# Altium footprint library Mylibr1.PcbLib: 92 footprints (part 2 of 6)
Each footprint in its own frame and in the unit in brackets; x right, y up, seen from the top. Pads: shape width x height; smd on the part's side, far side on the other; paste and mask are expansions set on the pad; w line width, h text height; cw(c..) or ccw(c..) is an arc to the next point about the centre after c.
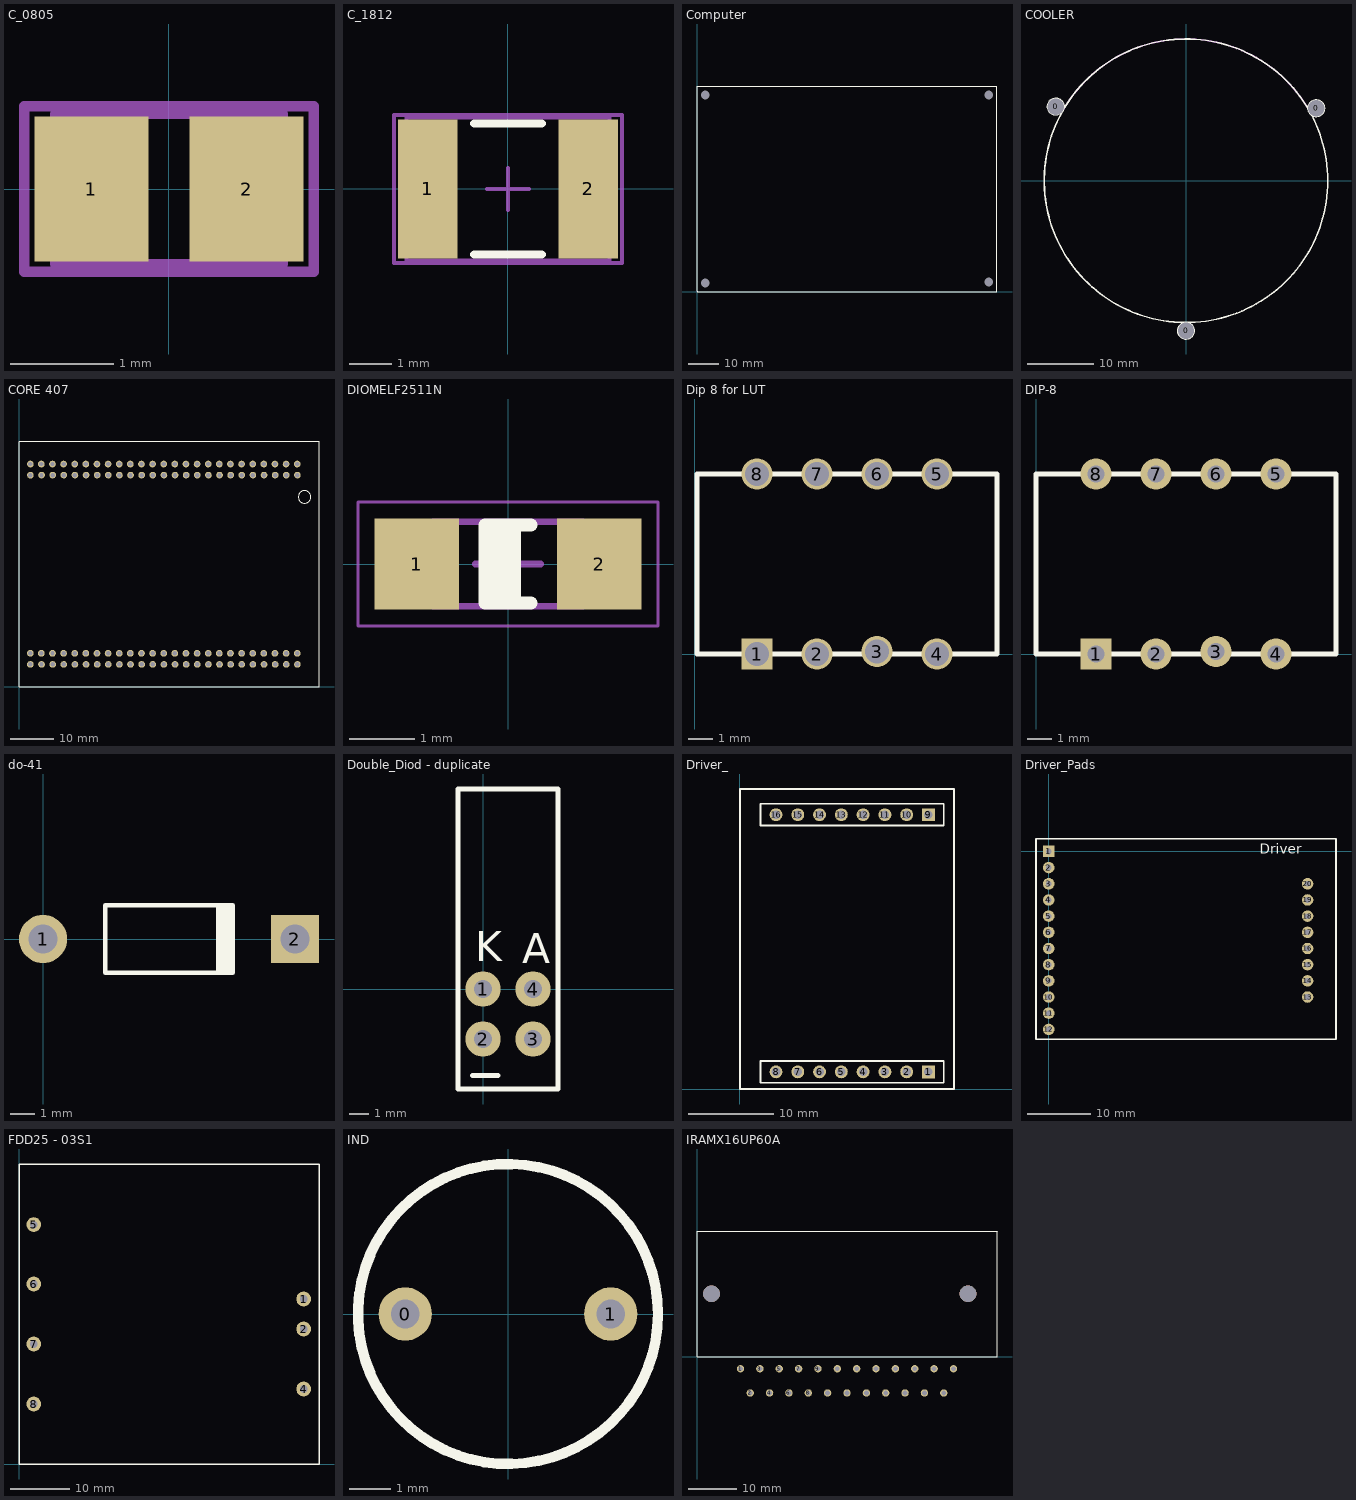
[diagram p1: the footprints below, top view; thin cyan lines are the x and y axes]

## C_0805 [mm] "Chip Capacitor, Body 2.0x1.3mm, IPC High Density"
height 1.4
pads (2):
  rect 1.1x1.4 smd: 1(-0.75,0) 2(0.75,0)
Mechanical 13:
  lines w0.1: -1.1,-0.725 -1.1,0.725 1.1,0.725 1.1,-0.725 -1.1,-0.725
Mechanical 15:
  lines w0.1: -1.4,-0.8 -1.4,0.8 1.4,0.8 1.4,-0.8 -1.4,-0.8
3D body: height 1.4, standoff 0, extent -1.1,-0.725 1.1,0.725

## C_1812 [mm] "Chip Capacitor, Body 4.5x3.2mm, IPC High Density"
height 1.4
pads (2):
  rect 1.4x3.3 smd: 1(-1.9,0) 2(1.9,0)
Top Overlay:
  lines w0.2: -0.8,-1.55 0.8,-1.55 ; -0.8,1.55 0.8,1.55
Mechanical 13:
  lines w0.1: -2.4,-1.7 2.4,-1.7 2.4,1.7 -2.4,1.7 -2.4,-1.7
Mechanical 15:
  lines w0.1: -0.5,0 0.5,0 ; 0,-0.5 0,0.5 ; -2.7,-1.75 2.7,-1.75 2.7,1.75 -2.7,1.75 -2.7,-1.75
3D body: height 1.4, standoff 0, extent -2.4,-1.7 2.4,1.7

## Computer [mm]
pads (4):
  round 1.524 hole 3: 0(2.75,3) 0(2.75,65.5) 0(97.25,3.25) 0(97.25,65.5)
Top Overlay:
  lines w0.254: 0,0 100,0 100,68.5 0.25,68.5 0,68.5 0,0.25 0.25,0

## COOLER [mm]
pads (3):
  round 1.524 hole 2.5: 0(-19.75,11.25) 0(0,-22.75) 0(19.75,11)
Top Overlay:
  circle w0.254: c-19.75,11.25 r1.25
  circle w0.254: c19.75,11 r1.25
  circle w0.254: c0,-22.75 r1.25
  circle w0.254: c0,0 r21.5
Mechanical 1:
  lines w0.254: -18.62,10.75 cw(c0,0) 18.62,10.75

## CORE 407 [mm]
pads (100):
  round 1.524 hole 1: 1(63.52,50.82) 2(63.57,48.3) 3(60.98,50.82) 4(61.03,48.3) 5(58.44,50.82) 6(58.49,48.3) 7(55.9,50.82) 8(55.95,48.3) 9(53.36,50.82) 10(53.41,48.3) 11(50.82,50.82) 12(50.87,48.3) 13(48.28,50.82) 14(48.33,48.3) 15(45.74,50.82) 16(45.79,48.3) 17(43.2,50.82) 18(43.25,48.3) 19(40.66,50.82) 20(40.71,48.3) 21(38.12,50.82) 22(38.17,48.3) 23(35.58,50.82) 24(35.63,48.3) 25(33.04,50.82) 26(33.09,48.3) 27(30.5,50.82) 28(30.55,48.3) 29(27.96,50.82) 30(28.01,48.3) 31(25.42,50.82) 32(25.47,48.3) 33(22.88,50.82) 34(22.93,48.3) 35(20.34,50.82) 36(20.39,48.3) 37(17.8,50.82) 38(17.85,48.3) 39(15.26,50.82) 40(15.31,48.3) 41(12.72,50.82) 42(12.77,48.3) 43(10.18,50.82) 44(10.23,48.3) 45(7.64,50.82) 46(7.69,48.3) 47(5.1,50.82) 48(5.15,48.3) 49(2.6,50.82) 50(2.6,48.28) 51(2.59,5.08) 52(2.59,7.62) 53(5.15,5.08) 54(5.1,7.6) 55(7.69,5.08) 56(7.64,7.6) 57(10.23,5.08) 58(10.18,7.6) 59(12.77,5.08) 60(12.72,7.6) 61(15.31,5.08) 62(15.26,7.6) 63(17.85,5.08) 64(17.8,7.6) 65(20.39,5.08) 66(20.34,7.6) 67(22.93,5.08) 68(22.88,7.6) 69(25.47,5.08) 70(25.42,7.6) 71(28.01,5.08) 72(27.96,7.6) 73(30.55,5.08) 74(30.5,7.6) 75(33.09,5.08) 76(33.04,7.6) 77(35.63,5.08) 78(35.58,7.6) 79(38.17,5.08) 80(38.12,7.6) 81(40.71,5.08) 82(40.66,7.6) 83(43.25,5.08) 84(43.2,7.6) 85(45.79,5.08) 86(45.74,7.6) 87(48.33,5.08) 88(48.28,7.6) 89(50.87,5.08) 90(50.82,7.6) 91(53.41,5.08) 92(53.36,7.6) 93(55.95,5.08) 94(55.9,7.6) 95(58.49,5.08) 96(58.44,7.6) 97(61.03,5.08) 98(60.98,7.6) 99(63.57,5.08) 100(63.52,7.6)
Top Overlay:
  circle w0.254: c65.2,43.3 r1.428
  lines w0.25: 0,0 0,55.88 ; 0,56 68.5,56 68.5,0.1
  lines w0.254: 0,0 68.5,0

## DIOMELF2511N [mm] "MELF Diode, 2-Leads, Body 2,55x1,10mm, IPC Medium Density"
height 1.3
pads (2):
  rect 1.3x1.4 smd: 1(-1.4,0) 2(1.4,0)
Top Overlay:
  rectangle: -0.35,-0.6 0.2,0.6
  lines w0.2: 0.35,-0.6 -0.35,-0.6 -0.35,0.6 0.35,0.6
Mechanical 13:
  lines w0.1: -1.15,-0.65 -1.15,0.65 1.15,0.65 1.15,-0.65 -1.15,-0.65
Mechanical 15:
  lines w0.05: -2.3,-0.95 -2.3,0.95 2.3,0.95 2.3,-0.95 -2.3,-0.95
  lines w0.1: -0.5,0 0.5,0 ; 0,-0.5 0,0.5
3D body: height 1.29, standoff 0, extent -1.15,-0.65 -0.6,0.647
3D body: height 1.28, standoff 0.04, extent 0,-0.621 0.6,0.619
3D body: height 1.28, standoff 0.05, extent -0.6,-0.62 0.6,0.618
3D body: height 1.29, standoff 0, extent 0.6,-0.65 1.15,0.647

## Dip 8 for LUT [mm]
pads (8):
  rect 1.3x1.3 hole 1 unplated: 1(2.6,0)
  round 1.3 hole 1 unplated: 2(5.1,0) 3(7.6,0.1) 4(10.1,0) 5(10.1,7.5) 6(7.6,7.5) 7(5.1,7.5) 8(2.6,7.5)
Top Overlay:
  lines w0.2: 0.1,0 0.1,7.5 12.6,7.5 12.6,0 0.1,0

## DIP-8 [mm]
pads (8):
  rect 1.3x1.3 hole 0.7 unplated: 1(2.5,0)
  round 1.3 hole 0.7 unplated: 2(5,0) 3(7.5,0.1) 4(10,0) 5(10,7.5) 6(7.5,7.5) 7(5,7.5) 8(2.5,7.5)
Top Overlay:
  lines w0.2: 0,0 12.5,0 12.5,7.5 0,7.5 0,0

## do-41 [mm]
pads (2):
  round 2 hole 1.2: 1(0,0)
  rect 2x2 hole 1.2: 2(10.46,0)
Top Overlay:
  rectangle: 7.18,-1.4 7.98,1.4
  lines w0.2: 7.88,-1.4 2.58,-1.4 2.58,1.4 7.88,1.4

## Double_Diod - duplicate [mm]
pads (4):
  round 1.8 hole 0.9: 1(0,0) 2(0,-2.54) 3(2.54,-2.54) 4(2.54,0)
Top Overlay:
  lines w0.254: -0.54,-4.4 0.76,-4.4 ; -1.27,-5.08 -1.27,10.16 0,10.16 3.81,10.16 3.81,-5.08 -1.27,-5.08
  text "K" at -0.4,1.4 h1.52
  text "A" at 2,1.3 h1.52

## Driver_ [mm]
pads (16):
  rect 1.5x1.5 hole 1: 1(22,2) 9(22,32)
  round 1.5 hole 1: 2(19.46,2) 3(16.92,2) 4(14.38,2) 5(11.84,2) 6(9.3,2) 7(6.76,2) 8(4.22,2) 10(19.46,32) 11(16.92,32) 12(14.38,32) 13(11.84,32) 14(9.3,32) 15(6.76,32) 16(4.22,32)
Top Overlay:
  lines w0.2: 23.778,0.73 23.778,3.27 ; 23.778,30.73 23.778,33.27 ; 23.78,0.73 2.4,0.73 2.4,3.27 23.78,3.27 ; 23.78,30.73 2.4,30.73 2.4,33.27 23.78,33.27
  lines w0.254: 0,0 0,35 25,35 25,0 0,0

## Driver_Pads [mm]
pads (20):
  rect 1.8x1.8 hole 0.9: 1(0,0)
  round 1.8 hole 0.9: 2(0,-2.54) 3(0,-5.08) 4(0,-7.62) 5(0,-10.16) 6(0,-12.7) 7(0,-15.24) 8(0,-17.78) 9(0,-20.32) 10(0,-22.86) 11(0,-25.4) 12(0,-27.94) 13(40.64,-22.86) 14(40.64,-20.32) 15(40.64,-17.78) 16(40.64,-15.24) 17(40.64,-12.7) 18(40.64,-10.16) 19(40.64,-7.62) 20(40.64,-5.08)
Top Overlay:
  lines w0.254: 45,2 0,2 -2,2 -2,-29.5 45.1,-29.5 45.1,2
  text "Driver" at 33.1,-0.4 h1.52

## FDD25 - 03S1 [mm]
pads (7):
  round 2.5 hole 1.3: 1(48.2,27.94) 2(48.2,22.86) 4(48.2,12.7) 5(2.5,40.54) 6(2.5,30.48) 7(2.5,20.32) 8(2.5,10.16)
Top Overlay:
  lines w0.254: 0,0 0,50.8 50.8,50.8 50.8,0 0,0

## IND [mm] "BIG inductivity"
pads (2):
  round 1.3 hole 0.7: 0(-2.5,0) 1(2.5,0)
Top Overlay:
  circle w0.254: c0,0 r3.65

## Inductor [mm]

## IRAMX16UP60A [mm]
pads (23):
  round 1.524 hole 1: 1(9,-2.5) 2(11,-7.5) 3(13,-2.5) 4(15,-7.5) 5(17,-2.5) 6(19,-7.5) 7(21,-2.5) 8(23,-7.5) 9(25,-2.5) 10(27,-7.5) 11(29,-2.5) 12(31,-7.5) 13(33,-2.5) 14(35,-7.5) 15(37,-2.5) 16(39,-7.5) 17(41,-2.5) 18(43,-7.5) 19(45,-2.5) 20(47,-7.5) 21(49,-2.5) 22(51,-7.5) 23(53,-2.5)
via 56,13 diameter 3.5 hole 3.5
via 3,13 diameter 3.5 hole 3.5
Top Overlay:
  lines w0.254: 61.9,25.9 62,25.8 62,0 0,0 0,25.9 62,25.9